# EAGLE library part SSM6P40TULFCT-ND (library Controller)
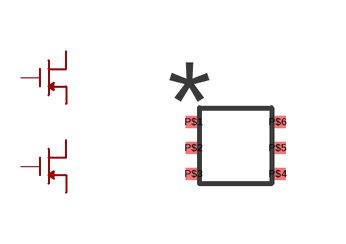
[diagram p6: symbol with the pads of SMD6; footprint SMD6]

Designator prefix U; gates G$1=PMOSFET G$2=PMOSFET

## SSM6P40TULFCT-ND (DIGIKEY_PART_NUMBER: SSM6P40TULFCT-ND)  [SMD6]
P$1  G$1:S
P$2  G$1:G
P$3  G$2:D
P$4  G$2:S
P$5  G$2:G
P$6  G$1:D

## Footprint SMD6 (pad centres in mm)
smd 0.4 x 0.3: P$1 -1.05,0.65; P$2 -1.05,0; P$3 -1.05,-0.65; P$4 1.05,-0.65; P$5 1.05,0; P$6 1.05,0.65